# Altium schematic symbol library arduino_joystick.SchLib: 1 symbol
Pins are listed as number, name and electrical type; pins without a type are passive.

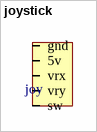
[diagram p0: symbol joystick]

## joystick
designator joy  (value not drawn)
pins: 0 gnd, 1 5v, 2 vrx, 3 vry, 4 sw